# Altium footprint library NC7SZ157P6X.PcbLib: 1 footprints
Each footprint in its own frame and in the unit in brackets; x right, y up, seen from the top. Pads: shape width x height; smd on the part's side, far side on the other; paste and mask are expansions set on the pad; w line width, h text height; cw(c..) or ccw(c..) is an arc to the next point about the centre after c.
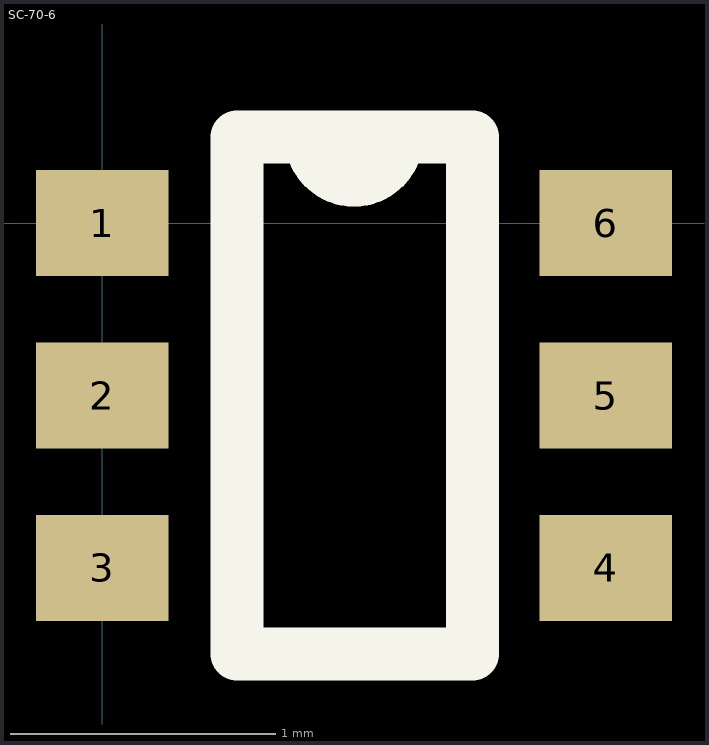
[diagram p0: the footprint, top view; thin cyan lines are the x and y axes]

## SC-70-6 [mm]
pads (6):
  rect 0.5x0.4 smd: 1(0,0) 2(0,-0.65) 3(0,-1.3) 4(1.9,-1.3) 5(1.9,-0.65) 6(1.9,0)
Top Overlay:
  lines w0.2: 0.508,-1.625 0.508,0.325 1.112,0.325 cw(c0.95,0.325) 0.787,0.325 1.397,0.325 1.397,-1.625 0.508,-1.625
3D body "SC70-6.STEP": height 0.91, standoff -0.04, extent -0.102,-1.635 1.998,0.365